# EAGLE library part 61000618321 (library Board-to-Board (rev18a))
WR-PHD 2.54mm SMT Pin Header, 6 Pins =>Code : Con_BTB_PHD_2.54_1_SMT_61000618321 <http://katalog.we-online.de/media/images/eican/Con_BTB_PHD_2.54_1_SMT_6100xx18221_pf2.jpg> Details see: http://katalog.we-online.de/en/em/610_0xx_182_21 Created 2014-05-29, Karrer Zheng 2014 (C) Würth Elektronik
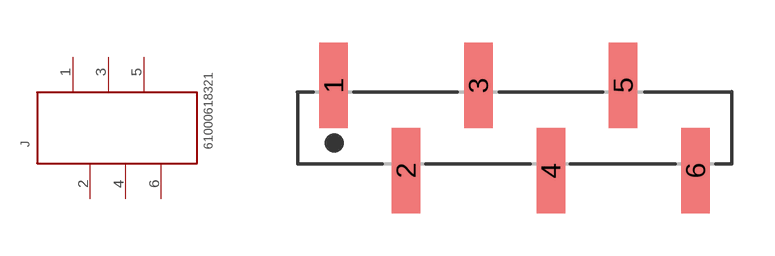
[diagram p67: symbol with the pads of 61000618321; footprint 61000618321]

Designator prefix J

## 61000618321  [61000618321]
1  6  pas
2  5  pas
3  4  pas
4  3  pas
5  2  pas
6  1  pas

## Footprint 61000618321 (pad centres in mm)
WR-PHD 2.54mm SMT Pin Header, 6 Pins
smd 1 x 3: 1 -6.35,1.5; 2 -3.81,-1.5; 3 -1.27,1.5; 4 1.27,-1.5; 5 3.81,1.5; 6 6.35,-1.5